# Altium footprint library Pcblibv2.PcbLib: 97 footprints (part 1 of 7)
Each footprint in its own frame and in the unit in brackets; x right, y up, seen from the top. Pads: shape width x height; smd on the part's side, far side on the other; paste and mask are expansions set on the pad; w line width, h text height; cw(c..) or ccw(c..) is an arc to the next point about the centre after c.
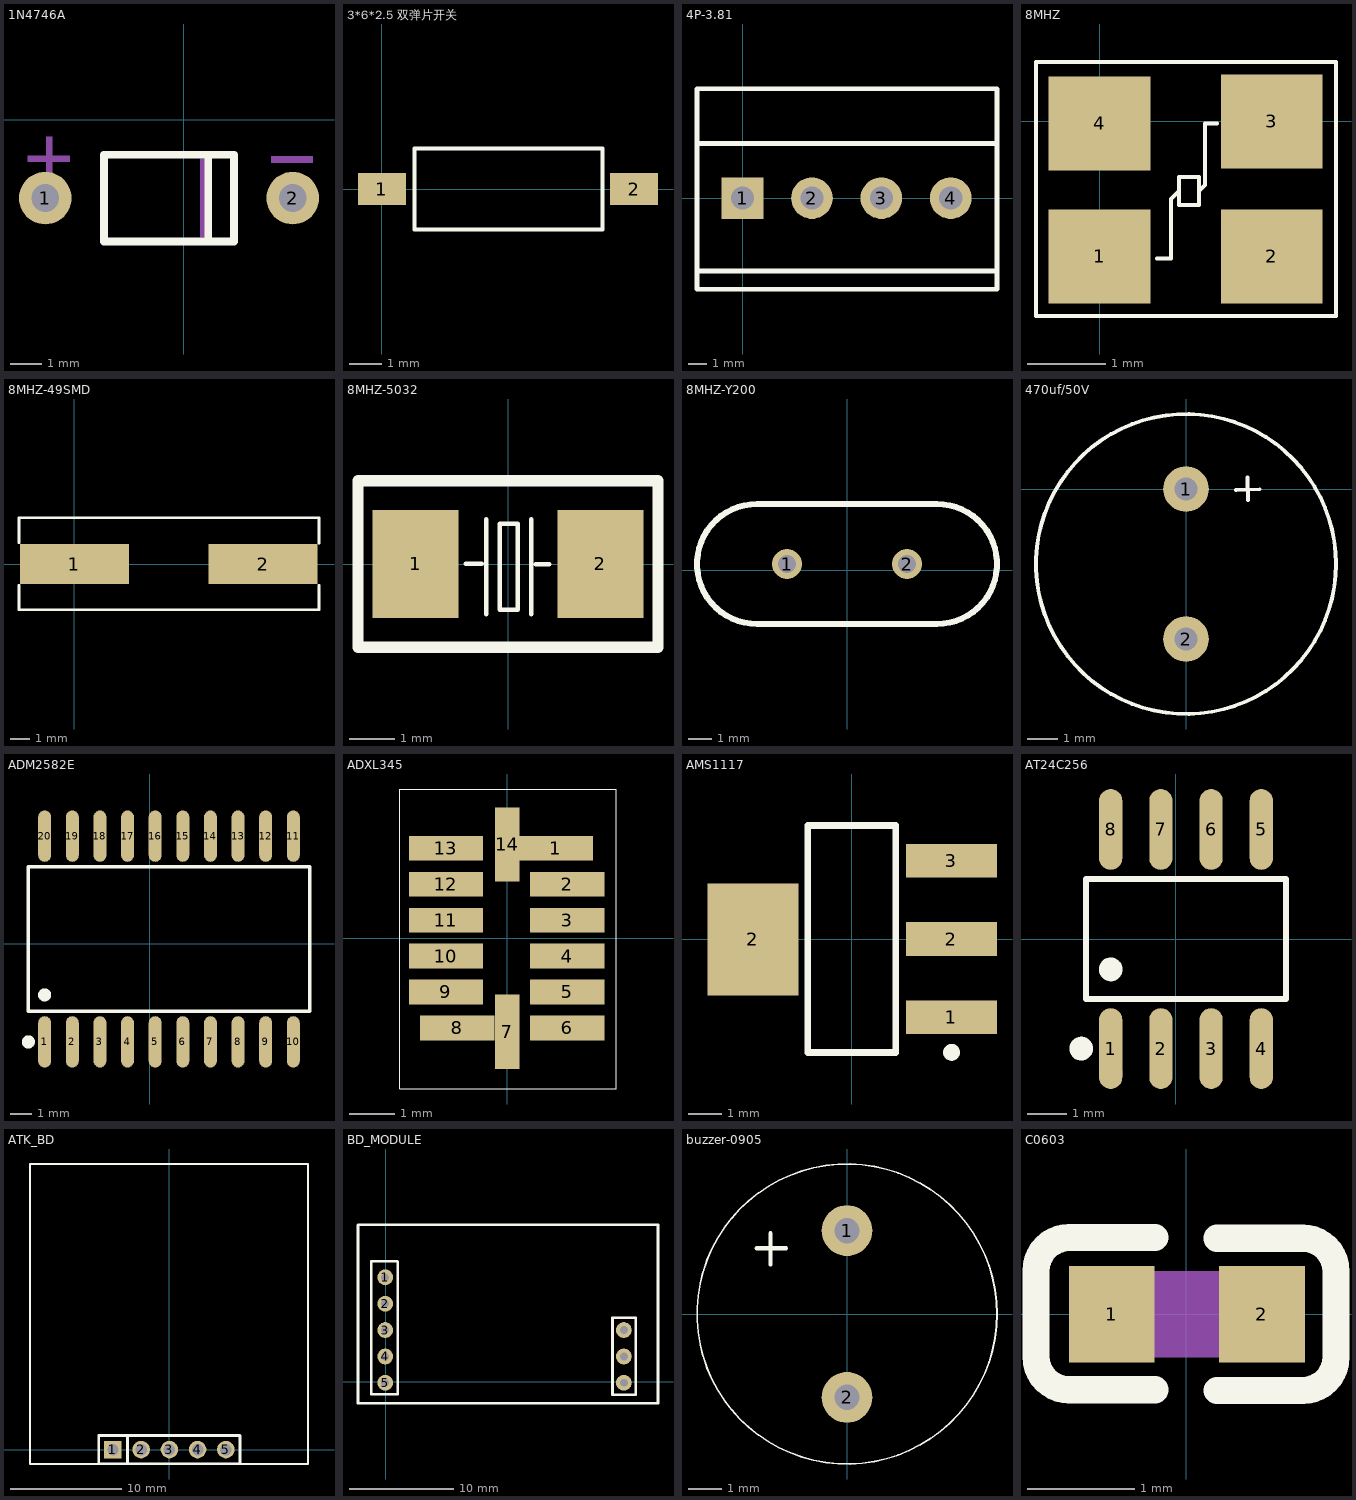
[diagram p0: the footprints below, top view; thin cyan lines are the x and y axes]

## 1N4746A [mm]
pads (2):
  round 1.7 hole 0.9 paste+0 mask+0.051: 1(-4.484,-2.537) 2(3.516,-2.537)
Top Overlay:
  lines w0.229: 0.786,-3.807 0.786,-1.267
  lines w0.254: -2.584,-3.937 -2.584,-1.137 1.616,-1.137 1.616,-3.937 -2.584,-3.937
Mechanical 15:
  region: -4.46,-1.899 -4.46,-0.549 -4.26,-0.549 -4.26,-1.899
  region: -5.046,-1.161 -3.696,-1.161 -3.696,-1.361 -5.046,-1.361
  region: 2.816,-1.187 4.166,-1.187 4.166,-1.387 2.816,-1.387
  region: 0.786,-3.807 0.786,-1.267 0.532,-1.267 0.532,-3.807

## 3*6*2.5 双弹片开关 [mm]
pads (2):
  rect 1.5x1 smd: 1(0,0) 2(7.9,0)
Top Overlay:
  lines w0.127: 1.016,-1.27 1.016,-0.864 1.016,0.914 1.016,1.27 6.909,1.27 6.909,0.889 6.909,-0.889 6.909,-1.27 1.016,-1.27

## 4P-3.81 [mil]
pads (4):
  rect 90x90 hole 50: 1(0,0)
  round 90 hole 50: 2(150,0) 3(300,0) 4(450,0)
Top Overlay:
  lines w10: -98.43,-157.48 550,-157.48 ; -98.43,118.11 550,118.11 ; -98.43,-196.85 550,-196.85 550,236.22 -98.43,236.22 -98.43,-196.85

## 8MHZ [mm] "C648987"
pads (4):
  rect 1.3x1.2 smd: 1(0,-1.725) 2(2.2,-1.725) 3(2.2,0) 4(0,-0.025)
Top Overlay:
  lines w0.051: 0.737,-1.753 0.914,-1.753 0.914,-0.991 1.016,-0.889 ; 1.27,-0.889 1.346,-0.813 1.346,-0.025 1.499,-0.025 ; -0.813,-2.489 3.023,-2.489 3.023,0.762 -0.813,0.762 -0.813,-2.489 ; 1.016,-1.067 1.27,-1.067 1.27,-0.711 1.016,-0.711 1.016,-1.067

## 8MHZ-49SMD [mm]
pads (2):
  rect 5.5x2 smd: 1(0,0) 2(9.5,0)
Top Overlay:
  lines w0.127: -2.794,-1.067 -2.794,-2.311 12.319,-2.311 12.319,-1.067 ; -2.794,1.067 -2.794,2.337 12.319,2.337 12.319,1.041

## 8MHZ-5032 [mm]
pads (2):
  rect 1.9x2.4 smd: 1(-2.05,0) 2(2.05,0)
Top Overlay:
  lines w0.1: -0.94,0 -0.584,0 ; -0.483,-1.109 -0.483,0.991 ; 0.517,-1.109 0.517,0.991 ; 0.617,-0.009 0.917,-0.009 ; -0.183,-1.009 0.217,-1.009 0.217,0.891 -0.183,0.891 -0.183,-1.009
  lines w0.254: -3.325,-1.85 -3.325,-0.7 -3.325,0.7 -3.325,1.85 3.325,1.85 3.325,0.7 3.325,-0.7 3.325,-1.85 -3.325,-1.85

## 8MHZ-Y200 [mil]
pads (2):
  round 50 hole 30: 1(-100,10) 2(100,10)
Top Overlay:
  lines w10: -150,-90 cw(c-150,10) -150,110 150,110 cw(c150,10) 150,-90 -150,-90

## 470uf/50V [mil] "直插"
pads (2):
  round 60 hole 30: 1(0,0) 2(0,-196.85)
Top Overlay:
  circle w5: c0,-98.43 r196.85
  lines w5: 65.8,-1.3 96.8,-0.4 ; 80.7,15.2 81.4,-14.4

## ADM2582E [mm]
pads (20):
  oval 0.595x2.36 smd: 1(-4.839,-4.503) 2(-3.569,-4.503) 3(-2.299,-4.503) 4(-1.029,-4.503) 5(0.241,-4.503) 6(1.511,-4.503) 7(2.781,-4.503) 8(4.051,-4.503) 9(5.321,-4.503) 10(6.591,-4.503) 11(6.591,4.957) 12(5.321,4.957) 13(4.051,4.957) 14(2.781,4.957) 15(1.511,4.957) 16(0.241,4.957) 17(-1.029,4.957) 18(-2.299,4.957) 19(-3.569,4.957) 20(-4.839,4.957)
Top Overlay:
  circle w0.3: c-4.839,-2.342 r0.15
  circle w0.3: c-5.589,-4.503 r0.15
  lines w0.152: -5.6,-3.095 -5.6,3.548 7.352,3.548 7.352,-3.095 -5.6,-3.095
Mechanical 15:
  circle w0.3: c-4.839,-5.336 r0.15

## ADXL345 [mm]
pads (14):
  rect 1.653x0.55 smd: 1(1.085,2.002) 2(1.339,1.202) 3(1.339,0.402) 4(1.339,-0.398) 5(1.339,-1.198) 6(1.339,-1.998) 8(-1.11,-1.998) 9(-1.364,-1.198) 10(-1.364,-0.398) 11(-1.364,0.402) 12(-1.364,1.202) 13(-1.364,2.002)
  rect 0.55x1.653 smd: 7(0,-2.085) 14(0,2.085)
Top Overlay:
  lines w0.025: -2.395,-3.358 2.431,-3.358 2.431,3.32 -2.395,3.32 -2.395,-3.358

## AMS1117 [mil]
pads (4):
  rect 106x39 smd: 1(116,-90.53) 2(116,0.47) 3(116,91.47)
  rect 106x130 smd: 2(-115,0)
Top Overlay:
  lines w7.9: -51.2,-131.43 51.2,-131.43 51.2,132.37 -51.2,132.37 -51.2,-131.43
  lines w9.8: 116.1,-126.53 ccw(c116.15,-131.42) 116.2,-126.53

## AT24C256 [mm]
pads (8):
  oval 0.588x2.045 smd: 1(-1.643,-2.77) 2(-0.373,-2.77) 3(0.897,-2.77) 4(2.167,-2.77) 5(2.167,2.775) 6(0.897,2.775) 7(-0.373,2.775) 8(-1.643,2.775)
Top Overlay:
  circle w0.3: c-1.643,-0.766 r0.15
  circle w0.3: c-2.39,-2.77 r0.15
  lines w0.152: -2.265,-1.519 -2.265,1.524 2.788,1.524 2.788,-1.519 -2.265,-1.519
Mechanical 15:
  circle w0.3: c-1.643,-3.397 r0.15

## ATK_BD [mil] "正点原子北斗模块"
pads (5):
  rect 62x62 hole 40.16: 1(-200,1)
  round 62 hole 40.16: 2(-100,1) 3(0,1) 4(100,1) 5(200,1)
Top Overlay:
  lines w7.99: -201,-50 199,-50 ; -200,-50 -420,-50 -493.46,-50 -493.46,1012.99 490.79,1012.99 490.79,-50 417.32,-50 200,-50
  lines w10: -148.09,-49 -148.09,51 ; -250,-49 -250,51 -175,51 250,51 250,-49 -250,-49

## BD_MODULE [mil]
pads (8):
  round 60 hole 30: 1(-1.9,396.3) 2(-1.9,296.3) 3(-1.9,196.3) 4(-1.9,96.3) 5(-1.9,-3.7) ""(903.61,-3.7) ""(903.61,96.3) ""(903.61,196.3)
Top Overlay:
  lines w10: -104.22,595.48 1017.08,595.48 ; -9.7,-81.7 -105,-81.7 -105.05,-81.65 -105.05,396.3 -105.05,594.65 ; -2.1,-3.5 -1.9,-3.7 ; 29,-81.7 -65.5,-81.7 1009.9,-81.7 ; 44.5,457.9 -54.1,457.9 -54.1,-46.8 45.7,-46.8 ; 46.3,-47.4 46.3,456.1 ; 996.6,595.6 1033,595.6 ; 999.2,-81.7 1033.1,-81.7 1033.1,595.7 1031.3,593.9 ; -105.05,594.65 -103.4,596.3 -105.05,594.65 ; 860.7,-49.3 949.2,-49.1 949.2,243.4 860.7,243.2 860.7,-49.3

## buzzer-0905 [mil]
pads (2):
  round 60 hole 30: 1(0,98.43) 2(0,-98.43)
Top Overlay:
  circle w2: c0,0 r177.17
  lines w5: -106.5,77.7 -72,77.7 ; -90.2,58.5 -90.2,95.4 -90.2,77.7 -89.25,77.7

## C0603 [mm]
pads (2):
  rect 0.8x0.9 smd: 1(-0.692,-0.003) 2(0.708,-0.003)
Top Overlay:
  lines w0.254: -0.288,-0.707 -1.088,-0.707 cw(c-1.088,-0.397) -1.398,-0.397 -1.398,0.403 cw(c-1.088,0.403) -1.088,0.713 -0.288,0.713 ; 0.288,-0.713 1.088,-0.713 ccw(c1.088,-0.403) 1.398,-0.403 1.398,0.397 ccw(c1.088,0.397) 1.088,0.707 0.288,0.707
Top Paste:
  region: 0.323,-0.141 0.323,0.136 0.726,0.429 1.022,0.429 1.086,0.365 1.086,-0.371 1.022,-0.435 0.726,-0.435
  region: -0.307,-0.141 -0.307,0.136 -0.71,0.429 -1.006,0.429 -1.07,0.365 -1.07,-0.371 -1.006,-0.435 -0.71,-0.435
Mechanical 4:
  region: -0.792,-0.403 -0.792,0.397 0.808,0.397 0.808,-0.403
Mechanical 5:
  region: -0.792,-0.403 -0.792,0.397 -0.492,0.397 -0.492,-0.403
  region: 0.808,-0.403 0.808,0.397 0.508,0.397 0.508,-0.403
3D body "Capacitor 0603 SMD.step": height 0.89, standoff -0.01, extent -1.287,-0.493 1.313,0.507